# EAGLE library part ALIEXPRESS_MICRO_USB (library aliexpress_micro_usb)
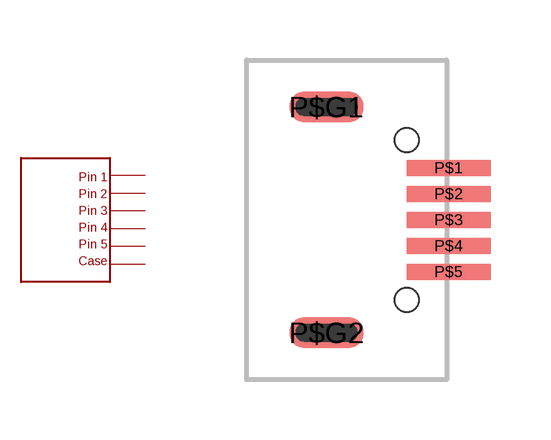
[diagram p0: symbol with the pads of ALIEXPRESS_MICRO_USB; footprint ALIEXPRESS_MICRO_USB]

Designator prefix -

## ALIEXPRESS_MICRO_USB  [ALIEXPRESS_MICRO_USB]
P$1  P$1
P$2  P$2
P$3  P$3
P$4  P$4
P$5  P$5
P$G1  P$G
P$G2  P$G

## Footprint ALIEXPRESS_MICRO_USB (pad centres in mm)
smd 2.1 x 0.4: P$1 3.05,1.3; P$2 3.05,0.65; P$3 3.05,0; P$4 3.05,-0.65; P$5 3.05,-1.3
smd 1.85 x 0.75: P$G1 0,2.825; P$G2 0,-2.825
hole 0.6 at 2,2
hole 0.6 at 2,-2